# EAGLE library part STM32L011F4U6TR (library Microcontroller)
IC MCU 32BIT 16KB FLASH 20UFQFPN Manufacturer's datasheet <https://www.st.com/resource/en/datasheet/stm32l011f3.pdf>
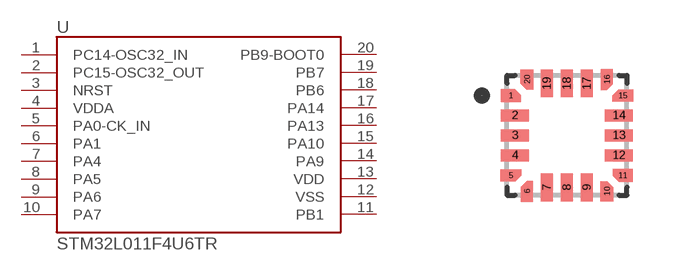
[diagram p39: symbol with the pads of 20-UFQFPN; footprint 20-UFQFPN]

Designator prefix U

## STM32L011F4U6TR (CREATED_BY: PCBLayout.com; DIGIKEY_PART_NUMBER: 497-17478-2-ND; MANUFACTURER: STMicroelectronics; MPN: STM32L011F4U6TR; PACKAGE: 20-UFQFPN)  [20-UFQFPN]
1  PC14-OSC32_IN
2  PC15-OSC32_OUT
3  NRST
4  VDDA  pwr
5  PA0-CK_IN
6  PA1
7  PA4
8  PA5
9  PA6
10  PA7
11  PB1
12  VSS  pwr
13  VDD  pwr
14  PA9
15  PA10
16  PA13
17  PA14
18  PB6
19  PB7
20  PB9-BOOT0  in

## Footprint 20-UFQFPN (pad centres in mm)
smd 0.1 x 0.1: 1 -1.4,1; 5 -1.4,-1; 6 -1,-1.4; 10 1,-1.4; 11 1.4,-1; 15 1.4,1; 16 1,1.4; 20 -1,1.4
smd 0.7 x 0.3: 2 -1.3,0.5; 3 -1.3,0; 4 -1.3,-0.5; 12 1.3,-0.5; 13 1.3,0; 14 1.3,0.5
smd 0.3 x 0.7: 7 -0.5,-1.3; 8 0,-1.3; 9 0.5,-1.3; 17 0.5,1.3; 18 0,1.3; 19 -0.5,1.3